# EAGLE library part 74HC595 (library gc-1000-gps custom lib)
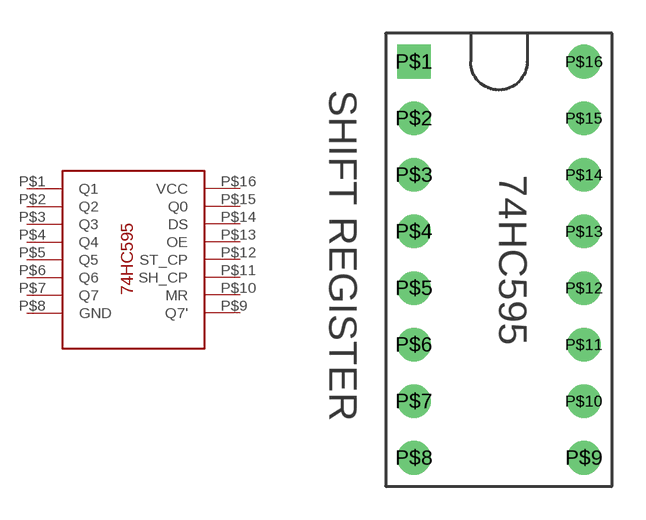
[diagram p4: symbol with the pads of 74HC595; footprint 74HC595]

Designator prefix -

## 74HC595  [74HC595]
P$1  Q1
P$2  Q2
P$3  Q3
P$4  Q4
P$5  Q5
P$6  Q6
P$7  Q7
P$8  GND
P$9  Q7'
P$10  MR
P$11  SH_CP
P$12  ST_CP
P$13  OE
P$14  DS
P$15  Q0
P$16  VCC

## Footprint 74HC595 (pad centres in mm)
Made by joe
drill 1 square: P$1 -3.81,8.89
drill 1: P$2 -3.81,6.35; P$3 -3.81,3.81; P$4 -3.81,1.27; P$5 -3.81,-1.27; P$6 -3.81,-3.81; P$7 -3.81,-6.35; P$8 -3.81,-8.89; P$9 3.81,-8.89; P$10 3.81,-6.35; P$11 3.81,-3.81; P$12 3.81,-1.27; P$13 3.81,1.27; P$14 3.81,3.81; P$15 3.81,6.35; P$16 3.81,8.89